# EAGLE library part IDG-3200-BOB (library aq_pcb_v2)
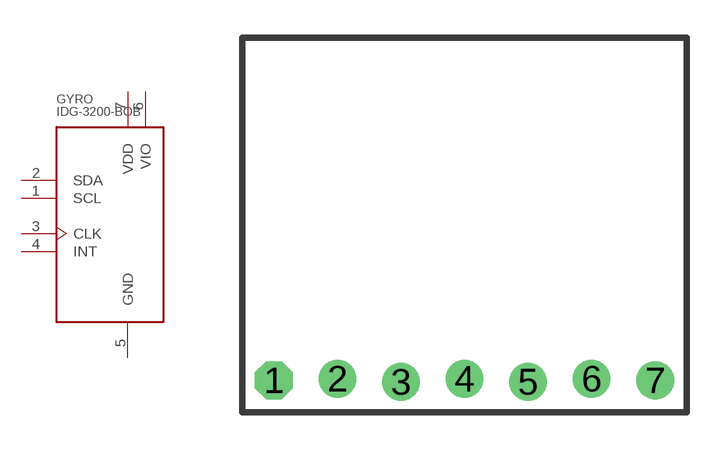
[diagram p3: symbol with the pads of ITG-3200-BOB; footprint ITG-3200-BOB]

Designator prefix GYRO

## IDG-3200-BOB  [ITG-3200-BOB]
1  SCL
2  SDA
3  CLK  out
4  INT  out
5  GND  pwr
6  VIO  pwr
7  VDD  pwr

## Footprint ITG-3200-BOB (pad centres in mm)
drill 1 octagon: 1 -7.62,0
drill 1 round: 2 -5.08,0.064; 3 -2.54,-0.064; 4 0,0.064; 5 2.54,-0.064; 6 5.08,0.064; 7 7.62,0